# Altium schematic symbol library MOSFET-N4.Schlib: 1 symbol
Pins are listed as number, name and electrical type; pins without a type are passive.

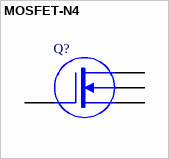
[diagram p0: symbol MOSFET-N4]

## MOSFET-N4
designator Q?
N-Channel MOSFET, Externally Terminated Substrate
pins: 1 G, 2 D, 3 U, 4 S